# Altium schematic symbol library WiFi_ESP8266.SchLib: 1 symbol
Pins are listed as number, name and electrical type; pins without a type are passive.

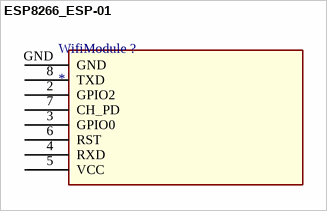
[diagram p0: symbol ESP8266_ESP-01]

## ESP8266_ESP-01
designator WifiModule ?
footprint ESP8266_ESP-01
pins: 2 GPIO2, 3 GPIO0, 4 RXD, 5 VCC, 6 RST, 7 CH_PD, 8 TXD, GND